# Altium footprint library ELRS-RX-MODULE-V11-20260204.PcbLib: 17 footprints (part 2 of 2)
Each footprint in its own frame and in the unit in brackets; x right, y up, seen from the top. Pads: shape width x height; smd on the part's side, far side on the other; paste and mask are expansions set on the pad; w line width, h text height; cw(c..) or ccw(c..) is an arc to the next point about the centre after c.
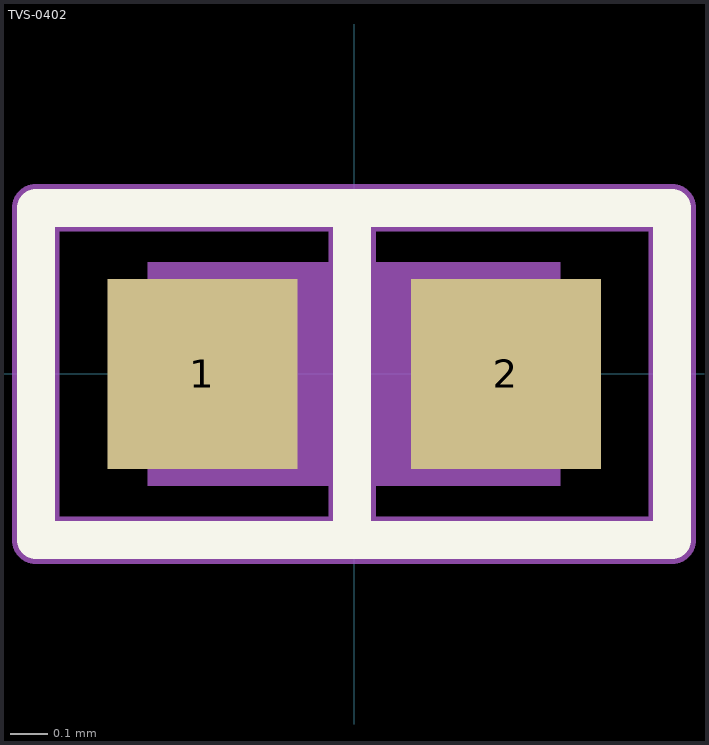
[diagram p1: the footprint, top view; thin cyan lines are the x and y axes]

## TVS-0402 [mil] "TVS-0402"
pads (2):
  rect 20x20 smd: 1(-15.98,0) 2(15.98,0)
Top Overlay:
  lines w4: -0.2,-17.52 -0.2,17.48 ; -33.51,-17.52 33.5,-17.52 33.5,17.48 -33.51,17.48 -33.51,-17.52
Top 3D Body:
  region: -21.7,-11.81 21.72,-11.81 21.72,11.77 -21.7,11.77
Mechanical 16:
  text "1" at -25.99,0 h25
  text "2" at 6.02,0 h25
Mechanical 27:
  lines w5: -0.2,-17.52 -0.2,17.48 ; -33.51,-17.52 33.5,-17.52 33.5,17.48 -33.51,17.48 -33.51,-17.52
  text "TVS_TVS-0402_RCLAMP0521P.TCT-MS" at 674.92,870.55 h50
  text "D2" at 45.9,-29.21 h25
3D body: height 150, standoff 0, extent -21.7,-11.81 21.72,11.77